# Altium footprint library LABLIB.PcbLib: 240 footprints (part 6 of 17)
Each footprint in its own frame and in the unit in brackets; x right, y up, seen from the top. Pads: shape width x height; smd on the part's side, far side on the other; paste and mask are expansions set on the pad; w line width, h text height; cw(c..) or ccw(c..) is an arc to the next point about the centre after c.
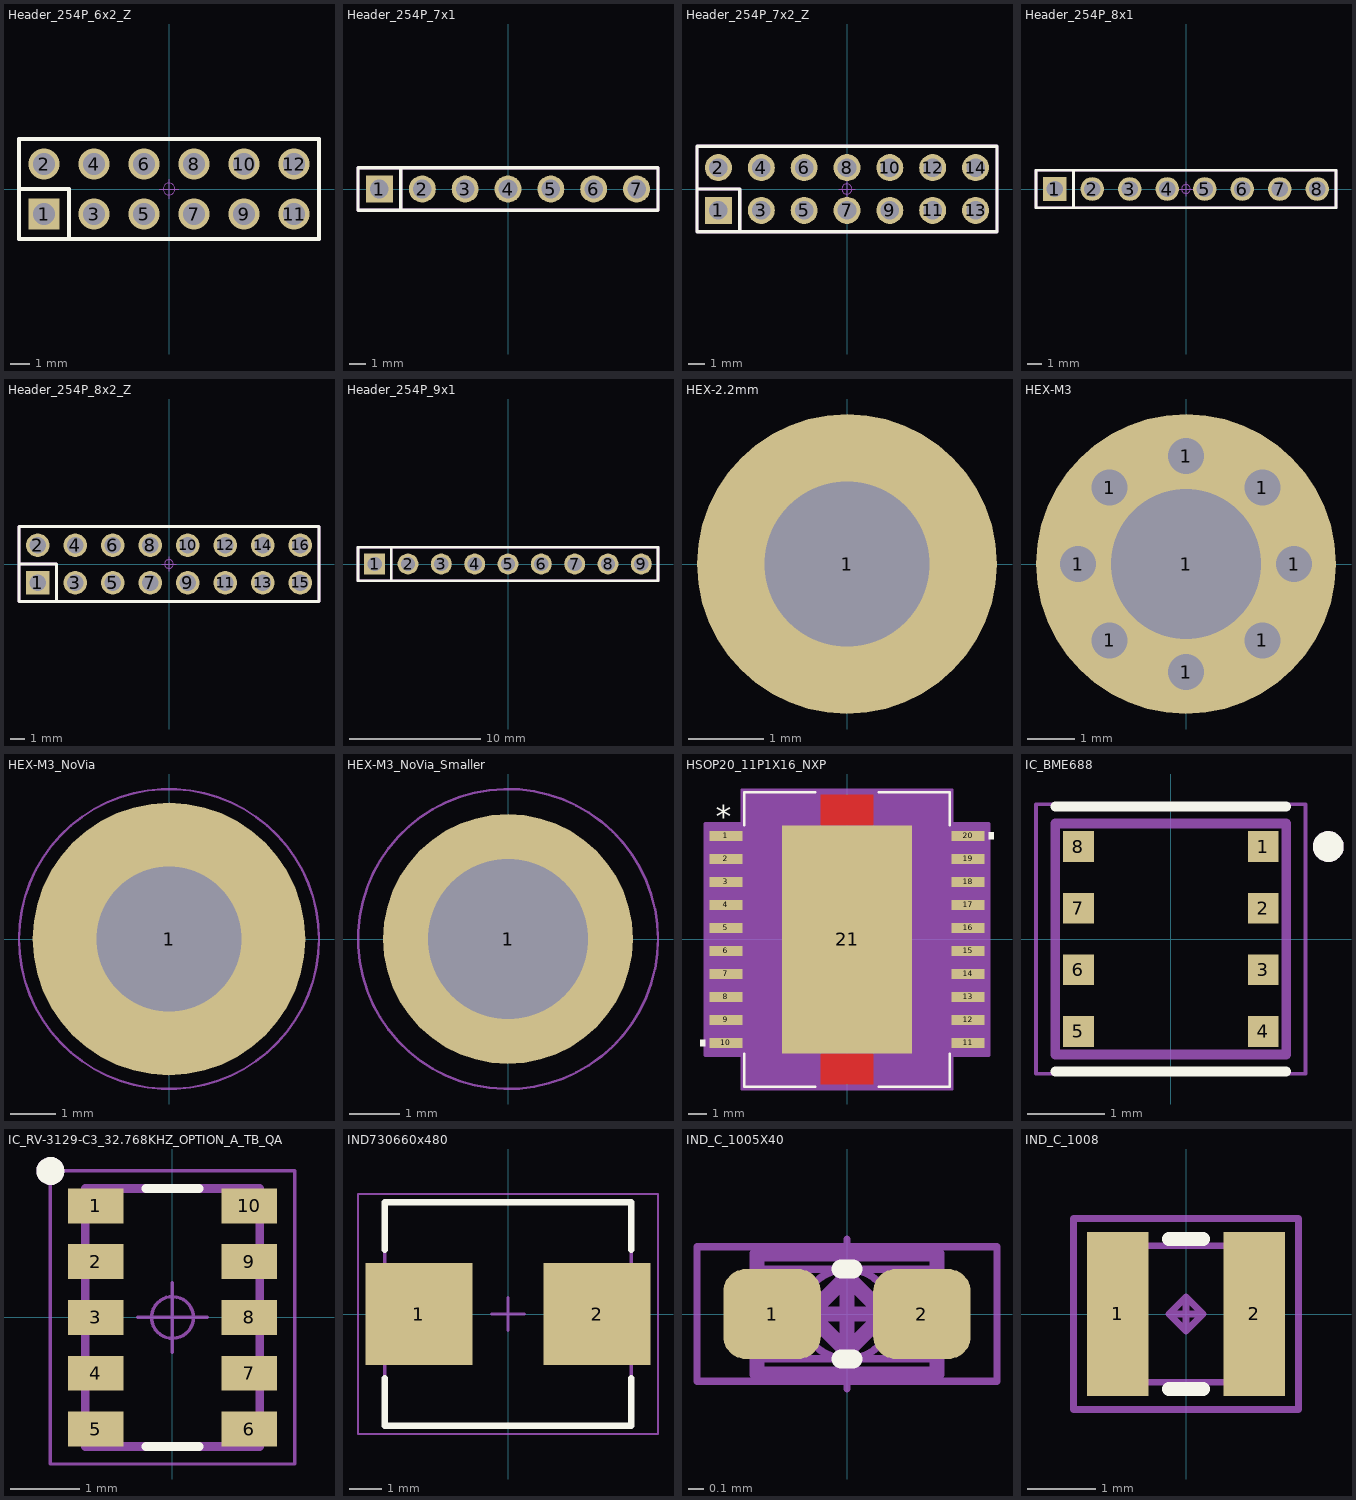
[diagram p5: the footprints below, top view; thin cyan lines are the x and y axes]

## Header_254P_6x2_Z [mm]
pads (12):
  rect 1.6x1.6 hole 1.1: 1(-6.35,-1.27)
  round 1.6 hole 1.1: 2(-6.35,1.27) 3(-3.81,-1.27) 4(-3.81,1.27) 5(-1.27,-1.27) 6(-1.27,1.27) 7(1.27,-1.27) 8(1.27,1.27) 9(3.81,-1.27) 10(3.81,1.27) 11(6.35,-1.27) 12(6.35,1.27)
Top Overlay:
  lines w0.2: -7.62,0 -5.08,0 -5.08,-2.54 ; -7.62,-2.54 -7.62,2.54 7.62,2.54 7.62,-2.54 -7.62,-2.54
Top Assembly:
  lines w0.2: -7.62,0 -5.08,0 -5.08,-2.54 ; -7.62,-2.54 -7.62,2.54 7.62,2.54 7.62,-2.54 -7.62,-2.54
  text "'.Designator'" at -3.952,-0.624 h1.5
Top Component Center:
  circle w0.05: c0,0 r0.3
  lines w0.05: -0.5,0 0.5,0 ; 0,-0.5 0,0.5

## Header_254P_7x1 [mm]
pads (7):
  rect 1.6x1.6 hole 1.1: 1(-7.62,0)
  round 1.6 hole 1.1: 2(-5.08,0) 3(-2.54,0) 4(0,0) 5(2.54,0) 6(5.08,0) 7(7.62,0)
Top Overlay:
  lines w0.2: -6.35,-1.27 -6.35,1.27 ; -8.89,-1.27 8.89,-1.27 8.89,1.27 -8.89,1.27 -8.89,-1.27
Top Assembly:
  lines w0.2: -6.35,-1.27 -6.35,1.27 ; -8.89,-1.27 8.89,-1.27 8.89,1.27 -8.89,1.27 -8.89,-1.27
  text "'.Designator'" at -3.952,-0.624 h1.5
Top Component Center:
  circle w0.05: c0,0 r0.3
  lines w0.05: -0.5,0 0.5,0 ; 0,-0.5 0,0.5

## Header_254P_7x2_Z [mm]
pads (14):
  rect 1.6x1.6 hole 1.1: 1(-7.62,-1.27)
  round 1.6 hole 1.1: 2(-7.62,1.27) 3(-5.08,-1.27) 4(-5.08,1.27) 5(-2.54,-1.27) 6(-2.54,1.27) 7(0,-1.27) 8(0,1.27) 9(2.54,-1.27) 10(2.54,1.27) 11(5.08,-1.27) 12(5.08,1.27) 13(7.62,-1.27) 14(7.62,1.27)
Top Overlay:
  lines w0.2: -8.89,0 -6.35,0 -6.35,-2.54 ; -8.89,-2.54 -8.89,2.54 8.89,2.54 8.89,-2.54 -8.89,-2.54
Top Assembly:
  lines w0.2: -8.89,0 -6.35,0 -6.35,-2.54 ; -8.89,-2.54 -8.89,2.54 6.35,2.54 8.89,2.54 8.89,-2.54 -8.89,-2.54
  text "'.Designator'" at -3.952,-0.624 h1.5
Top Component Center:
  circle w0.05: c0,0 r0.3
  lines w0.05: -0.5,0 0.5,0 ; 0,-0.5 0,0.5

## Header_254P_8x1 [mm]
pads (8):
  rect 1.6x1.6 hole 1.1: 1(-8.89,0)
  round 1.6 hole 1.1: 2(-6.35,0) 3(-3.81,0) 4(-1.27,0) 5(1.27,0) 6(3.81,0) 7(6.35,0) 8(8.89,0)
Top Overlay:
  lines w0.2: -7.62,-1.27 -7.62,1.27 ; -10.16,-1.27 10.16,-1.27 10.16,1.27 -10.16,1.27 -10.16,-1.27
Top Assembly:
  lines w0.125: 7.62,-1.27 10.16,-1.27
  lines w0.2: -7.62,-1.27 -7.62,1.27 ; 7.62,-1.27 10.16,-1.27 ; 7.62,-1.27 10.16,-1.27 ; 7.62,-1.27 -10.16,-1.27 -10.16,1.27 7.62,1.27 10.16,1.27 10.16,-1.27
  text "'.Designator'" at -3.952,-0.624 h1.5
Top Component Center:
  circle w0.05: c0,0 r0.3
  lines w0.05: -0.5,0 0.5,0 ; 0,-0.5 0,0.5

## Header_254P_8x2_Z [mm]
pads (16):
  rect 1.6x1.6 hole 1.1: 1(-8.89,-1.27)
  round 1.6 hole 1.1: 2(-8.89,1.27) 3(-6.35,-1.27) 4(-6.35,1.27) 5(-3.81,-1.27) 6(-3.81,1.27) 7(-1.27,-1.27) 8(-1.27,1.27) 9(1.27,-1.27) 10(1.27,1.27) 11(3.81,-1.27) 12(3.81,1.27) 13(6.35,-1.27) 14(6.35,1.27) 15(8.89,-1.27) 16(8.89,1.27)
Top Overlay:
  lines w0.2: -10.16,0 -7.62,0 -7.62,-2.54 ; -10.16,-2.54 -10.16,2.54 10.16,2.54 10.16,-2.54 -10.16,-2.54
Top Assembly:
  lines w0.125: 7.62,-2.54 10.16,-2.54
  lines w0.2: -10.16,0 -7.62,0 -7.62,-2.54 ; 7.62,-2.54 -10.16,-2.54 -10.16,2.54 5.08,2.54 10.16,2.54 10.16,-2.54 ; 7.62,-2.54 10.16,-2.54 ; 7.62,-2.54 10.16,-2.54
  text "'.Designator'" at -3.952,-0.624 h1.5
Top Component Center:
  circle w0.05: c0,0 r0.3
  lines w0.05: -0.5,0 0.5,0 ; 0,-0.5 0,0.5

## Header_254P_9x1 [mm]
pads (9):
  rect 1.6x1.6 hole 1.1: 1(-10.16,0)
  round 1.6 hole 1.1: 2(-7.62,0) 3(-5.08,0) 4(-2.54,0) 5(0,0) 6(2.54,0) 7(5.08,0) 8(7.62,0) 9(10.16,0)
Top Overlay:
  lines w0.2: -8.89,-1.27 -8.89,1.27 ; -11.43,-1.27 11.43,-1.27 11.43,1.27 -11.43,1.27 -11.43,-1.27
Top Assembly:
  lines w0.125: 6.35,-1.27 8.89,-1.27
  lines w0.2: -8.89,-1.27 -8.89,1.27 ; 8.89,-1.27 6.35,-1.27 ; 6.35,-1.27 11.43,-1.27 11.43,1.27 6.35,1.27 -11.43,1.27 -11.43,-1.27 6.35,-1.27
  text "'.Designator'" at -3.952,-0.624 h1.5
Top Component Center:
  circle w0.05: c0,0 r0.3
  lines w0.05: -0.5,0 0.5,0 ; 0,-0.5 0,0.5

## HEX-2.2mm [mm]
pads (1):
  round 4 hole 2.2: 1(0,0)

## HEX-M3 [mil]
pads (9):
  round 60 hole 30 mask+0: 1(-90,0) 1(-63.64,-63.64) 1(-63.64,63.64) 1(0,-90) 1(0,90) 1(63.64,-63.64) 1(63.64,63.64) 1(90,0)
  round 250 hole 125.2: 1(0,0)

## HEX-M3_NoVia [mm]
pads (1):
  round 6 / inner round 4.4 / far side round 6 hole 3.2: 1(0,0)
Top Courtyard:
  circle w0.05: c0,0 r3.3

## HEX-M3_NoVia_Smaller [mm]
pads (1):
  round 5 / inner round 4.4 / far side round 5 hole 3.2: 1(0,0)
Top Courtyard:
  circle w0.05: c0,0 r3

## HSOP20_11P1X16_NXP [mil]
pads (21):
  rect 71x22 smd paste+0 mask+0: 1(-263,225) 2(-263,175) 3(-263,125) 4(-263,75) 5(-263,25) 6(-263,-25) 7(-263,-75) 8(-263,-125) 9(-263,-175) 10(-263,-225) 11(263,-225) 12(263,-175) 13(263,-125) 14(263,-75) 15(263,-25) 16(263,25) 17(263,75) 18(263,125) 19(263,175) 20(263,225)
  rect 283x496 smd paste+0 mask+0: 21(0,0)
Top Layer:
  region: 0,248 -57,248 -57,315 0,315
  region: 0,248 57,248 57,315 0,315
  region: 0,-248 -57,-248 -57,-315 0,-315
  region: 0,-248 57,-248 57,-315 0,-315
Top Overlay:
  region: -308.5,-217.5 -318.5,-217.5 -318.5,-232.5 -308.5,-232.5
  region: 308.5,232.5 318.5,232.5 318.5,217.5 308.5,217.5
  lines w6: -223.5,-248.47 -223.5,-320 -69.11,-320 ; -223.5,248.47 -223.5,320 -69.11,320 ; 69.11,-320 223.5,-320 223.5,-248.47 ; 69.11,320 223.5,320 223.5,248.47
  text "*" at -285.5,242 h50
Top Paste:
  drawing of 49 lines, arcs and shapes, not listed
Top Solder:
  region: 0,248 -57,248 -57,315 0,315
  region: 0,248 57,248 57,315 0,315
  region: 0,-248 -57,-248 -57,-315 0,-315
  region: 0,-248 57,-248 57,-315 0,-315
Mechanical 13:
  lines w0: -12,315 ccw(c0,315) 12,315
  lines w1: -284.5,-235 -284.5,-215 -218.5,-215 -218.5,-235 -284.5,-235 ; -284.5,-185 -284.5,-165 -218.5,-165 -218.5,-185 -284.5,-185 ; -284.5,-135 -284.5,-115 -218.5,-115 -218.5,-135 -284.5,-135 ; -284.5,-85 -284.5,-65 -218.5,-65 -218.5,-85 -284.5,-85 ; -284.5,-35 -284.5,-15 -218.5,-15 -218.5,-35 -284.5,-35 ; -284.5,15 -284.5,35 -218.5,35 -218.5,15 -284.5,15 ; -284.5,65 -284.5,85 -218.5,85 -218.5,65 -284.5,65 ; -284.5,115 -284.5,135 -218.5,135 -218.5,115 -284.5,115 ; -284.5,165 -284.5,185 -218.5,185 -218.5,165 -284.5,165 ; -284.5,215 -284.5,235 -218.5,235 -218.5,215 -284.5,215 ; -218.5,-315 218.5,-315 218.5,315 -218.5,315 -218.5,-315 ; 218.5,-235 218.5,-215 284.5,-215 284.5,-235 218.5,-235 ; 218.5,-185 218.5,-165 284.5,-165 284.5,-185 218.5,-185 ; 218.5,-135 218.5,-115 284.5,-115 284.5,-135 218.5,-135 ; 218.5,-85 218.5,-65 284.5,-65 284.5,-85 218.5,-85 ; 218.5,-35 218.5,-15 284.5,-15 284.5,-35 218.5,-35 ; 218.5,15 218.5,35 284.5,35 284.5,15 218.5,15 ; 218.5,65 218.5,85 284.5,85 284.5,65 218.5,65 ; 218.5,115 218.5,135 284.5,135 284.5,115 218.5,115 ; 218.5,165 218.5,185 284.5,185 284.5,165 218.5,165 ; 218.5,215 218.5,235 284.5,235 284.5,215 218.5,215
  text "*" at -221,197 h50
Mechanical 15:
  region: -228.5,-252 -308.5,-252 -308.5,252 -228.5,252 -228.5,325 228.5,325 228.5,252 308.5,252 308.5,-252 228.5,-252 228.5,-325 -228.5,-325
  lines w6: -308.5,-252 -308.5,252 -228.5,252 -228.5,325 228.5,325 228.5,252 308.5,252 308.5,-252 228.5,-252 228.5,-325 -228.5,-325 -228.5,-252 -308.5,-252
3D body "HSOP20_11P1X16_NXP.step": height 134.09, standoff -2.01, extent -284.49,-315 284.49,315

## IC_BME688 [mm]
pads (8):
  rect 0.4x0.4 smd: 1(1.2,1.2) 2(1.2,0.4) 3(1.2,-0.4) 4(1.2,-1.2) 5(-1.2,-1.2) 6(-1.2,-0.4) 7(-1.2,0.4) 8(-1.2,1.2)
Top Overlay:
  circle w0.2: c2.045,1.2 r0.1
  lines w0.127: -1.5,-1.72 1.5,-1.72 ; -1.5,1.72 1.5,1.72
Mechanical 13:
  circle w0.2: c2.045,1.2 r0.1
  lines w0.127: -1.5,-1.5 -1.5,1.5 1.5,1.5 1.5,-1.5 -1.5,-1.5
Mechanical 15:
  lines w0.05: -1.75,-1.75 1.75,-1.75 1.75,1.75 -1.75,1.75 -1.75,-1.75

## IC_RV-3129-C3_32.768KHZ_OPTION_A_TB_QA [mm]
pads (10):
  rect 0.8x0.5 smd mask+0.05: 1(-1.1,1.6) 2(-1.1,0.8) 3(-1.1,0) 4(-1.1,-0.8) 5(-1.1,-1.6) 6(1.1,-1.6) 7(1.1,-0.8) 8(1.1,0) 9(1.1,0.8) 10(1.1,1.6)
Top Overlay:
  circle w0.2: c-1.75,2.1 r0.1
  lines w0.127: -0.38,-1.85 0.38,-1.85 ; -0.38,1.85 0.38,1.85
Top Assembly:
  circle w0.2: c-1.75,2.1 r0.1
  lines w0.127: -1.25,-1.85 1.25,-1.85 1.25,1.85 -1.25,1.85 -1.25,-1.85
  text "'.Designator'" at -3.952,-0.622 h1.5
Top Courtyard:
  lines w0.05: -1.75,-2.1 1.75,-2.1 1.75,2.1 -1.75,2.1 -1.75,-2.1
Top Component Center:
  circle w0.05: c0,0 r0.3
  lines w0.05: -0.5,0 0.5,0 ; 0,-0.5 0,0.5
3D body "step_temp.STEP": height 0.9, standoff 0, extent -1.25,-1.85 1.25,1.85

## IND730660x480 [mm] "Precision Wire Wound Inductor, 2-Leads, Body 7.30x6.60mm, IPC Medium Density"
height 4.8
pads (2):
  rect 3.3x3.15 smd: 1(-2.75,0) 2(2.75,0)
Top Overlay:
  lines w0.2: -3.8,-1.975 -3.8,-3.45 3.8,-3.45 3.8,-1.975 ; -3.8,1.975 -3.8,3.45 3.8,3.45 3.8,1.975
Top Courtyard:
  lines w0.05: -4.625,-3.7 4.625,-3.7 4.625,3.7 -4.625,3.7 -4.625,-3.7
  lines w0.1: -0.5,0 0.5,0 ; 0,-0.5 0,0.5
Top 3D Body:
  lines w0.1: -3.8,-3.45 3.8,-3.45 3.8,3.45 -3.8,3.45 -3.8,-3.45
3D body "PSM6050 Molded high current inductor.STEP": height 4.91, standoff -0.05, extent -3.6,-3.3 3.6,3.3

## IND_C_1005X40 [mm]
pads (2):
  rrect50% 0.65x0.6 smd mask+0.05: 1(-0.5,0) 2(0.5,0)
Top Overlay:
  lines w0.125: -0.04,-0.3 0.04,-0.3 ; -0.04,0.3 0.04,0.3
Top Assembly:
  lines w0.1: -0.6,-0.4 0.6,-0.4 0.6,0.4 -0.6,0.4 -0.6,-0.4
  text "'.Designator'" at -4.433,-0.827 h1.6
Top Courtyard:
  lines w0.05: -1,-0.45 -1,0.45 1,0.45 1,-0.45 -0.575,-0.45 -1,-0.45
  lines w0.1: -0.25,0 0.25,0 ; -0.25,0 0,-0.25 ; -0.25,0 0,0.25 ; 0,-0.25 0,0.25 ; 0,-0.25 0.25,0 ; 0,0.25 0.25,0
Top Component Outline:
  rectangle: -0.55,-0.3 -0.25,0.3
  rectangle: 0.25,-0.3 0.55,0.3
  lines w0.05: -0.55,-0.3 0.55,-0.3 0.55,0.3 -0.55,0.3 -0.55,-0.3
Top Component Center:
  circle w0.05: c0,0 r0.3
  lines w0.05: -0.5,0 0.5,0 ; 0,-0.5 0,0.5
3D body "6-1622826-4.stp": height 0.38, standoff 0.02, extent -0.5,-0.25 0.5,0.25

## IND_C_1008 [mm]
pads (2):
  rect 0.9x2.4 smd mask+0.075: 1(-1,0) 2(1,0)
Top Overlay:
  lines w0.2: -0.25,-1.1 0.25,-1.1 ; -0.25,1.1 0.25,1.1
Top Assembly:
  lines w0.1: -1.25,-1 -1.25,1 1.25,1 1.25,-1 -1.25,-1
  text "'.Designator'" at -0.6,-0.25 h0.5
Top Courtyard:
  lines w0.1: -0.25,0 0.25,0 ; -0.25,0 0,0.25 ; -0.25,0 0,-0.25 ; 0,-0.25 0,0.25 ; 0,-0.25 0.25,0 ; 0,0.25 0.25,0 ; -1.65,-1.4 1.65,-1.4 1.65,1.4 -1.65,1.4 -1.65,-1.4
3D body: height 1.2, standoff 0, extent -1.237,-1 -0.637,1
3D body: height 1.2, standoff 0, extent -0.637,-0.975 0.663,0.975
3D body: height 1.2, standoff 0, extent 0.663,-1 1.263,1